# Altium schematic symbol library eecs52_Tim.SchLib: 11 symbols
Pins are listed as number, name and electrical type; pins without a type are passive.

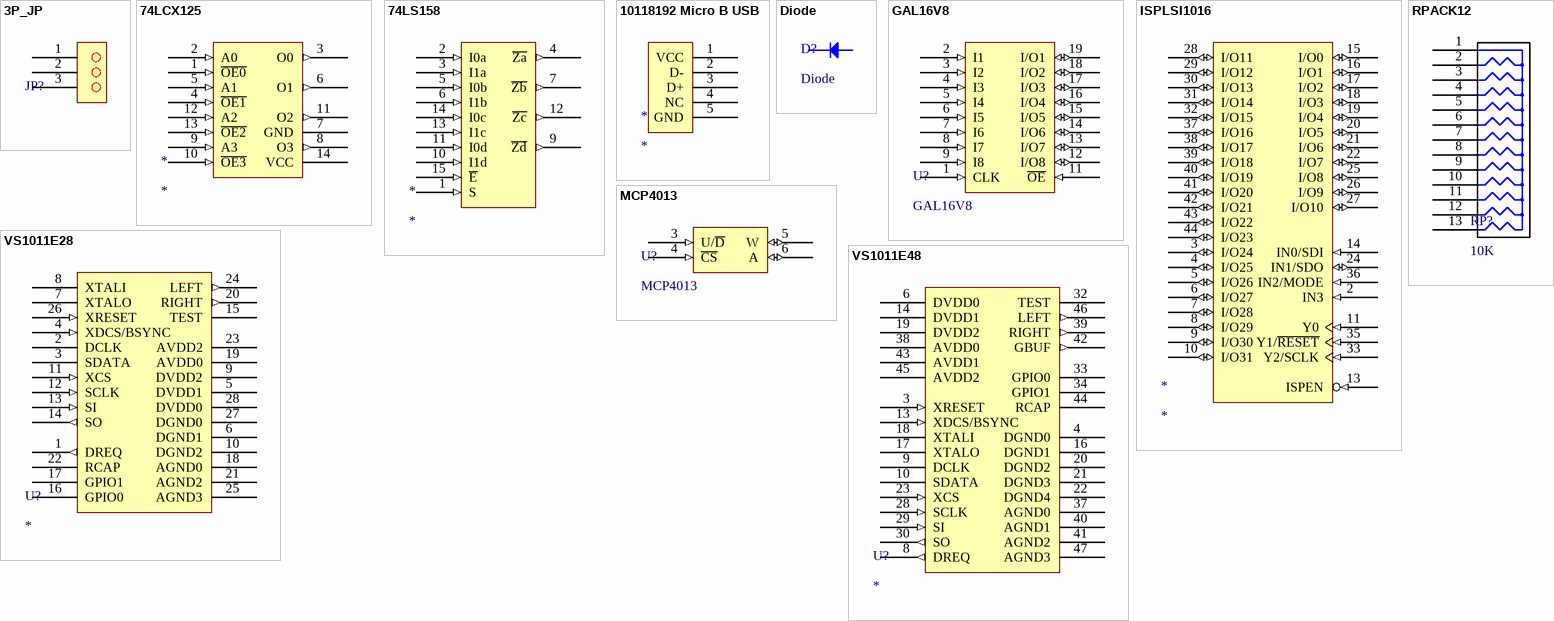
[diagram p0: symbols 3P_JP to VS1011E48]

## 3P_JP
designator JP?
footprint 3P_JP
pins: 1, 2, 3

## 74LCX125
designator *
footprint SOIC 14
pins: 1 ~{O}~{E}~{0} (in), 2 A0 (in), 3 O0 (out), 4 ~{O}~{E}~{1} (in), 5 A1 (in), 6 O1 (out), 7 GND (power), 8 O3 (out), 9 A3 (in), 10 ~{OE3} (in), 11 O2 (out), 12 A2 (in), 13 ~{OE2} (in), 14 VCC (power)

## 74LS158
designator *
footprint DIP16
pins: 1 S (in), 2 I0a (in), 3 I1a (in), 4 ~{Za} (out), 5 I0b (in), 6 I1b (in), 7 ~{Zb} (out), 8 GND (power) hidden to GND, 9 ~{Zd} (out), 10 I1d (in), 11 I0d (in), 12 ~{Zc} (out), 13 I1c (in), 14 I0c (in), 15 ~{E} (in), 16 VCC (power) hidden to VCC

## 10118192 Micro B USB
designator *
pins: 1 VCC, 2 D-, 3 D+, 4 NC, 5 GND

## Diode
designator D?
pins: 1, 2

## GAL16V8
designator U?
pins: 1 CLK (in), 2 I1 (in), 3 I2 (in), 4 I3 (in), 5 I4 (in), 6 I5 (in), 7 I6 (in), 8 I7 (in), 9 I8 (in), 10 GND (power) hidden to GND, 11 ~{OE} (in), 12 I/O8 (io), 13 I/O7 (io), 14 I/O6 (io), 15 I/O5 (io), 16 I/O4 (io), 17 I/O3 (io), 18 I/O2 (io), 19 I/O1 (io), 20 VCC (power) hidden to VCC

## ISPLSI1016
designator *
footprint PLCC44
footprint PLCCS44
pins: 2 IN3 (in), 3 I/O24 (io), 4 I/O25 (io), 5 I/O26 (io), 6 I/O27 (io), 7 I/O28 (io), 8 I/O29 (io), 9 I/O30 (io), 10 I/O31 (io), 11 Y0 (in), 13 ISPEN (in), 14 IN0/SDI (in), 15 I/O0 (io), 16 I/O1 (io), 17 I/O2 (io), 18 I/O3 (io), 19 I/O4 (io), 20 I/O5 (io), 21 I/O6 (io), 22 I/O7 (io), 24 IN1/SDO (io), 25 I/O8 (io), 26 I/O9 (io), 27 I/O10 (io), 28 I/O11 (io), 29 I/O12 (io), 30 I/O13 (io), 31 I/O14 (io), 32 I/O15 (io), 33 Y2/SCLK (in), 35 Y1/~{RESET} (in), 36 IN2/MODE (in), 37 I/O16 (io), 38 I/O17 (io), 39 I/O18 (io), 40 I/O19 (io), 41 I/O20 (io), 42 I/O21 (io), 43 I/O22 (io), 44 I/O23 (io)

## MCP4013
designator U?
footprint SOT-23-6
pins: 1 VCC hidden, 2 GND hidden, 3 U/~{D} (in), 4 ~{CS} (in), 5 W (io), 6 A (io)

## RPACK12
designator RP?, comment 10K
pins: 1, 2, 3, 4, 5, 6, 7, 8, 9, 10, 11, 12, 13

## VS1011E28
designator U?
footprint SOL-28
pins: 1 DREQ (out), 2 DCLK, 3 SDATA, 4 XDCS/BSYNC (in), 5 DVDD1, 6 DGND1, 7 XTALO, 8 XTALI, 9 DVDD2, 10 DGND2, 11 XCS (in), 12 SCLK (in), 13 SI (in), 14 SO (out), 15 TEST, 16 GPIO0, 17 GPIO1, 18 AGND0, 19 AVDD0, 20 RIGHT (out), 21 AGND2, 22 RCAP, 23 AVDD2, 24 LEFT (out), 25 AGND3, 26 XRESET (in), 27 DGND0, 28 DVDD0

## VS1011E48
designator U?
footprint LQFP48
pins: 3 XRESET (in), 4 DGND0, 6 DVDD0, 8 DREQ (out), 9 DCLK, 10 SDATA, 13 XDCS/BSYNC (in), 14 DVDD1, 16 DGND1, 17 XTALO, 18 XTALI, 19 DVDD2, 20 DGND2, 21 DGND3, 22 DGND4, 23 XCS (in), 28 SCLK (in), 29 SI (in), 30 SO (out), 32 TEST, 33 GPIO0, 34 GPIO1, 37 AGND0, 38 AVDD0, 39 RIGHT (out), 40 AGND1, 41 AGND2, 42 GBUF (out), 43 AVDD1, 44 RCAP, 45 AVDD2, 46 LEFT (out), 47 AGND3